# Altium schematic symbol library 2601-1109.SchLib: 1 symbol
Pins are listed as number, name and electrical type; pins without a type are passive.

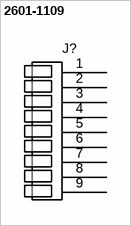
[diagram p0: symbol 2601-1109]

## 2601-1109
designator J?
pins: 1, 2, 3, 4, 5, 6, 7, 8, 9